# EAGLE library part 74AC16373 (library 74ac-logic)
16-bit transparent D-type LATCH, 3-state
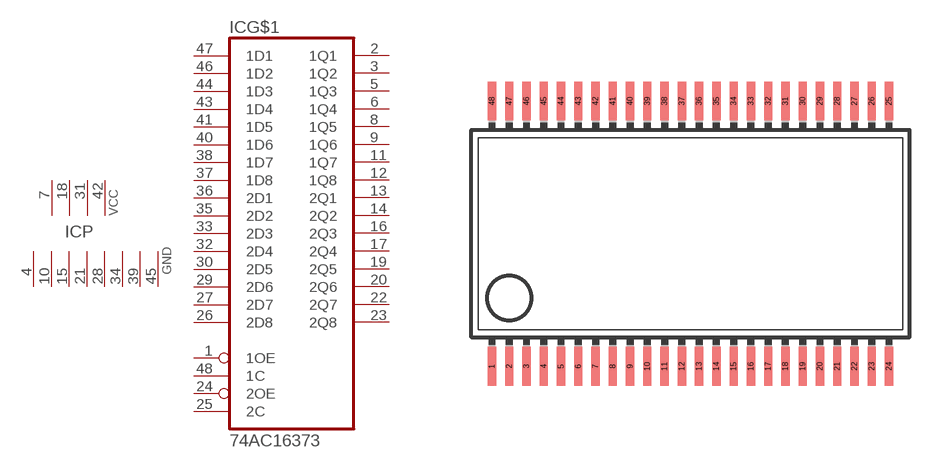
[diagram p21: symbol with the pads of SSOP48DL; footprint SSOP48DL]

Designator prefix IC; gates G$1=7416373 P=4PWR8GND

## 74AC16373  [SSOP48DL]
1  G$1:1OE  in
2  G$1:1Q1  hiz
3  G$1:1Q2  hiz
4  P:GND  pwr
5  G$1:1Q3  hiz
6  G$1:1Q4  hiz
7  P:VCC  pwr
8  G$1:1Q5  hiz
9  G$1:1Q6  hiz
10  P:GND  pwr
11  G$1:1Q7  hiz
12  G$1:1Q8  hiz
13  G$1:2Q1  hiz
14  G$1:2Q2  hiz
15  P:GND  pwr
16  G$1:2Q3  hiz
17  G$1:2Q4  hiz
18  P:VCC  pwr
19  G$1:2Q5  hiz
20  G$1:2Q6  hiz
21  P:GND  pwr
22  G$1:2Q7  hiz
23  G$1:2Q8  hiz
24  G$1:2OE  in
25  G$1:2C  in
26  G$1:2D8  in
27  G$1:2D7  in
28  P:GND  pwr
29  G$1:2D6  in
30  G$1:2D5  in
31  P:VCC  pwr
32  G$1:2D4  in
33  G$1:2D3  in
34  P:GND  pwr
35  G$1:2D2  in
36  G$1:2D1  in
37  G$1:1D8  in
38  G$1:1D7  in
39  P:GND  pwr
40  G$1:1D6  in
41  G$1:1D5  in
42  P:VCC  pwr
43  G$1:1D4  in
44  G$1:1D3  in
45  P:GND  pwr
46  G$1:1D2  in
47  G$1:1D1  in
48  G$1:1C  in

## Footprint SSOP48DL (pad centres in mm)
Shrink Small Outline Package
smd 0.305 x 1.422: 1 -6.985,-4.877; 2 -6.35,-4.877; 3 -5.715,-4.877; 4 -5.08,-4.877; 5 -4.445,-4.877; 6 -3.81,-4.877; 7 -3.175,-4.877; 8 -2.54,-4.877; 9 -1.905,-4.877; 10 -1.27,-4.877; 11 -0.635,-4.877; 12 0,-4.877; 13 0.635,-4.877; 14 1.27,-4.877; 15 1.905,-4.877; 16 2.54,-4.877; 17 3.175,-4.877; 18 3.81,-4.877; 19 4.445,-4.877; 20 5.08,-4.877; 21 5.715,-4.877; 22 6.35,-4.877; 23 6.985,-4.877; 24 7.62,-4.877; 25 7.62,4.877; 26 6.985,4.877; 27 6.35,4.877; 28 5.715,4.877; 29 5.08,4.877; 30 4.445,4.877; 31 3.81,4.877; 32 3.175,4.877; 33 2.54,4.877; 34 1.905,4.877; 35 1.27,4.877; 36 0.635,4.877; 37 0,4.877; 38 -0.635,4.877; 39 -1.27,4.877; 40 -1.905,4.877; 41 -2.54,4.877; 42 -3.175,4.877; 43 -3.81,4.877; 44 -4.445,4.877; 45 -5.08,4.877; 46 -5.715,4.877; 47 -6.35,4.877; 48 -6.985,4.877